# EAGLE library part 750510438 (library wurth_electronics_midcom_inc_v2-1)
Package Style: EP7 Mounting: SMD Pins: 8 pins Bobbin: 070-5615 Best pinouts for production vary per application. Please contact Wurth Electronics Midcom, Inc. for assistance with your custom design. Website: Wurth Electronics Midcom <http://www.we-online.com/midcom> Contact us Wurth Electronics Midcom, Inc. 121 Airport Dr. Watertown, SD 57201 Phone: (605) 886-4385 Fax: (605) 886-4486 E-Mail: midcom@we-online.com
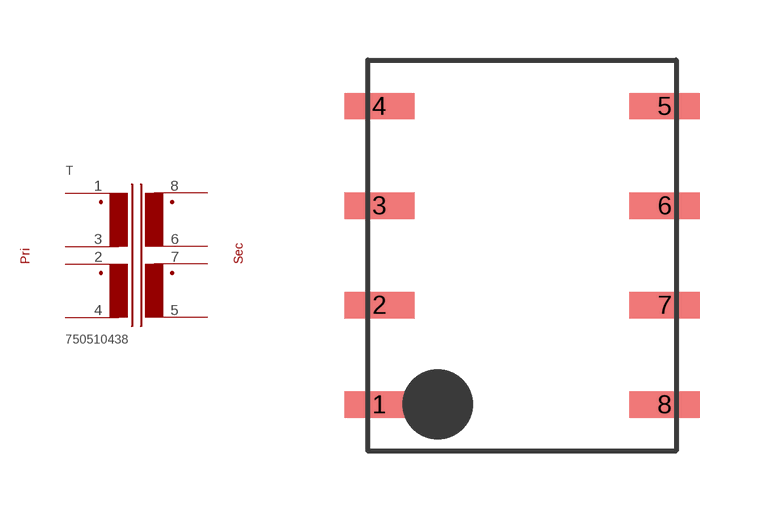
[diagram p168: symbol with the pads of EP7_SMD_H_8PIN_(5615); footprint EP7_SMD_H_8PIN_(5615)]

Designator prefix T

## 750510438  [EP7_SMD_H_8PIN_(5615)]
1  1  pas
2  2  pas
3  3  pas
4  4  pas
5  5  pas
6  6  pas
7  7  pas
8  8  pas

## Footprint EP7_SMD_H_8PIN_(5615) (pad centres in mm)
Package Style: EP7 Mounting: SMD Pins: 8 Bobbin: 070-5615
smd 1.753 x 0.66: 1 -3.569,-3.734; 2 -3.569,-1.245; 3 -3.569,1.245; 4 -3.569,3.734; 5 3.569,3.734; 6 3.569,1.245; 7 3.569,-1.245; 8 3.569,-3.734